# Altium footprint library LAIRD_BMI-S-206-F.PcbLib: 1 footprints
Each footprint in its own frame and in the unit in brackets; x right, y up, seen from the top. Pads: shape width x height; smd on the part's side, far side on the other; paste and mask are expansions set on the pad; w line width, h text height; cw(c..) or ccw(c..) is an arc to the next point about the centre after c.
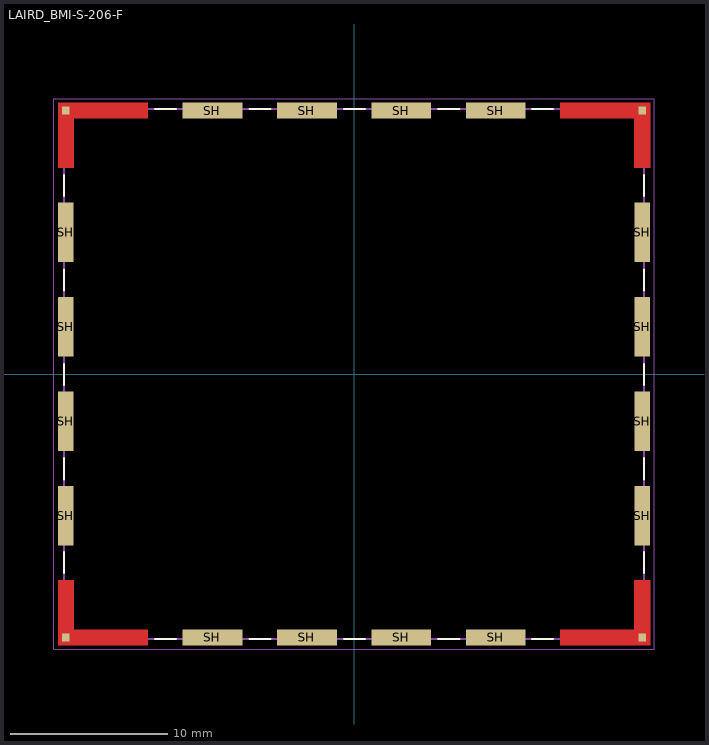
[diagram p0: the footprint, top view; thin cyan lines are the x and y axes]

## LAIRD_BMI-S-206-F [mm]
height 5.21
pads (20):
  rect 0.5x0.5 smd paste-1 mask+0: SH(-18.32,-16.74) SH(-18.32,16.74) SH(18.31,-16.74) SH(18.31,16.74)
  rect 1x3.8 smd: SH(-18.32,-9) SH(-18.32,-3) SH(-18.32,3) SH(-18.32,9) SH(18.31,-9) SH(18.31,-3) SH(18.31,3) SH(18.31,9)
  rect 3.8x1 smd: SH(-9,-16.74) SH(-9,16.74) SH(-3,-16.74) SH(-3,16.74) SH(3,-16.74) SH(3,16.74) SH(9,-16.74) SH(9,16.74)
Top Layer:
  region: 18.81,13.1 17.81,13.1 17.81,16.24 13.1,16.24 13.1,17.24 18.81,17.24
  region: 18.81,-17.24 13.1,-17.24 13.1,-16.24 17.81,-16.24 17.81,-13.1 18.81,-13.1
  region: -13.1,16.24 -17.81,16.24 -17.81,13.1 -18.81,13.1 -18.81,17.24 -13.1,17.24
  region: -17.81,-16.24 -13.1,-16.24 -13.1,-17.24 -18.81,-17.24 -18.81,-13.1 -17.81,-13.1
Top Overlay:
  lines w0.127: -18.42,-12.65 -18.42,-11.3 ; -18.42,-6.7 -18.42,-5.35 ; -18.42,-0.7 -18.42,0.65 ; -18.42,5.3 -18.42,6.65 ; -18.42,11.3 -18.42,12.65 ; -12.655,-16.84 -11.305,-16.84 ; -12.655,16.84 -11.305,16.84 ; -6.655,-16.84 -5.305,-16.84 ; -6.655,16.84 -5.305,16.84 ; -0.655,-16.84 0.695,-16.84 ; -0.655,16.84 0.695,16.84 ; 5.345,-16.84 6.695,-16.84 ; 5.345,16.84 6.695,16.84 ; 11.295,-16.84 12.645,-16.84 ; 11.295,16.84 12.645,16.84 ; 18.41,-12.65 18.41,-11.3 ; 18.41,-6.7 18.41,-5.35 ; 18.41,-0.7 18.41,0.65 ; 18.41,5.3 18.41,6.65 ; 18.41,11.3 18.41,12.65
Top Paste:
  region: 18.81,13.1 17.81,13.1 17.81,16.24 13.1,16.24 13.1,17.24 18.81,17.24
  region: 18.81,-17.24 13.1,-17.24 13.1,-16.24 17.81,-16.24 17.81,-13.1 18.81,-13.1
  region: -13.1,16.24 -17.81,16.24 -17.81,13.1 -18.81,13.1 -18.81,17.24 -13.1,17.24
  region: -17.81,-16.24 -13.1,-16.24 -13.1,-17.24 -18.81,-17.24 -18.81,-13.1 -17.81,-13.1
Top Solder:
  region: 18.91,13 17.71,13 17.71,16.14 13,16.14 13,17.34 18.91,17.34
  region: 18.91,-17.34 13,-17.34 13,-16.14 17.71,-16.14 17.71,-13 18.91,-13
  region: -13,16.14 -17.71,16.14 -17.71,13 -18.91,13 -18.91,17.34 -13,17.34
  region: -17.71,-16.14 -13,-16.14 -13,-17.34 -18.91,-17.34 -18.91,-13 -17.71,-13
Mechanical 13:
  lines w0.127: -18.42,-16.84 -18.42,16.84 18.41,16.84 18.41,-16.84 -18.42,-16.84
Mechanical 15:
  lines w0.05: -19.07,-17.49 -19.07,17.49 19.06,17.49 19.06,-17.49 -19.07,-17.49
3D body "step_temp.STEP": height 5.08, standoff 0, extent -18.685,-17.11 18.685,17.11